# Altium schematic symbol library S4B-XH-A_LF__SN_.SchLib: 1 symbol
Pins are listed as number, name and electrical type; pins without a type are passive.

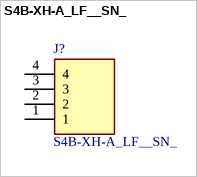
[diagram p0: symbol S4B-XH-A_LF__SN_]

## S4B-XH-A_LF__SN_
designator J?
XH-2.5mm Header side entry 4 way JST XH Series, Series Number S4B, 2.5mm Pitch 4 Way 1 Row Right Angle PCB Header, Solder Termination, 3A; Manufacturer_Name: JST (JAPAN SOLDERLESS TERMINALS); Manufacturer_Part_Number: S4B-XH-A(LF)(SN); Geometry.Height: 7mm; Mouser Part Number: N/A; Mouser Price/Stock: https://www.mouser.co.uk/ProductDetail/JST-Commercial/S4B-XH-ALFSN?qs=QpmGXVUTftF7eeJ4yg3VYQ%3D%3D; Arrow Part Number: S4B-XH-A(LF)(SN); Arrow Price/Stock: https://www.arrow.com/en/products/s4b-xh-a-lf-sn/jst-manufacturing?utm_currency=USD&region=europe; Datasheet Link: https://www.mouser.co.uk/ProductDetail/JST-Commercial/S4B-XH-ALFSN?qs=QpmGXVUTftEyAvx%252Br33AyQ%3D%3D&srsltid=AfmBOopXgwHK5vQKy207Eg2VBdixziHXVBrLkW0Mvqq_XGzuQb0VSmKc
footprint S4BXHALFSN
pins: 1, 2, 3, 4